# Altium footprint library CONN_DB.PcbLib: 1 footprints
Each footprint in its own frame and in the unit in brackets; x right, y up, seen from the top. Pads: shape width x height; smd on the part's side, far side on the other; paste and mask are expansions set on the pad; w line width, h text height; cw(c..) or ccw(c..) is an arc to the next point about the centre after c.
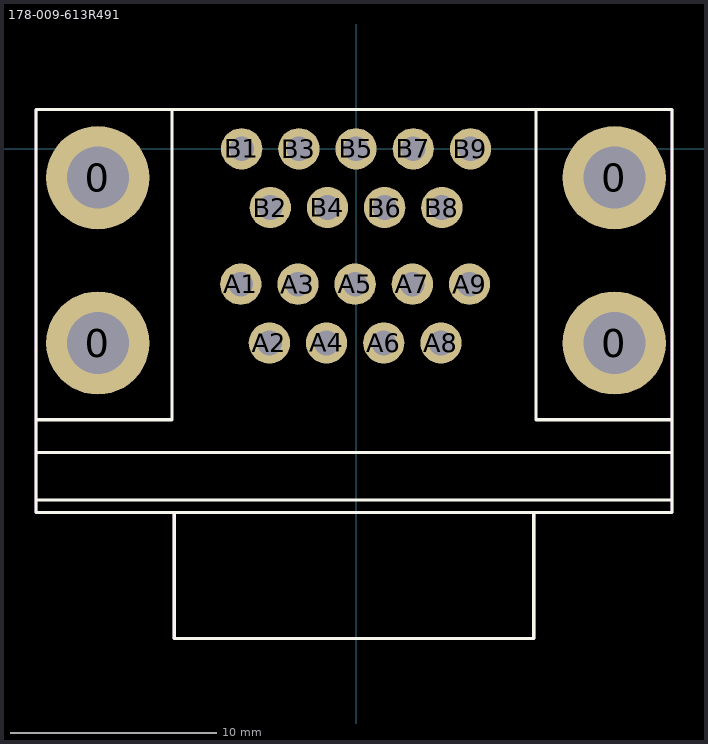
[diagram p0: the footprint, top view; thin cyan lines are the x and y axes]

## 178-009-613R491 [mm]
pads (22):
  round 5 hole 3: 0(-12.5,-9.4) 0(-12.5,-1.4) 0(12.5,-9.4) 0(12.5,-1.4)
  round 2 hole 1.2: A1(-5.58,-6.554) A2(-4.196,-9.399) A3(-2.812,-6.554) A4(-1.428,-9.399) A5(-0.044,-6.554) A6(1.34,-9.399) A7(2.724,-6.554) A8(4.108,-9.399) A9(5.492,-6.554) B1(-5.536,0) B2(-4.152,-2.845) B3(-2.768,0) B4(-1.384,-2.845) B5(0,0) B6(1.384,-2.845) B7(2.768,0) B8(4.152,-2.845) B9(5.536,0)
Top Overlay:
  lines w0.15: -15.5,-17 15.3,-17 ; -15.5,-14.7 15.3,-14.7 ; -15.5,-13.114 -8.9,-13.114 -8.9,1.9 ; 8.7,1.9 8.7,-13.114 15.3,-13.114 ; -8.8,-17.6 8.6,-17.6 ; -8.8,-17.6 -15.5,-17.6 -15.5,1.9 15.3,1.9 15.3,-17.6 8.6,-17.6 ; -8.8,-17.6 -8.8,-23.7 8.6,-23.7 8.6,-17.6
Mechanical 14:
  lines w0.15: -8.8,-17.6 -8.8,-23.7 8.6,-23.7 8.6,-17.6 ; -8.8,-17.6 -15.5,-17.6 -15.5,1.9 15.3,1.9 15.3,-17.6 8.6,-17.6 ; -8.8,-17.6 8.6,-17.6
  text ".Designator" at -3.1,-13.2 h4
3D body "DB9_male_male.STEP": height 28.8, standoff -3.98, extent -15.505,-23.7 15.305,1.9